# Altium schematic symbol library MF-FSMF050X-2.SchLib: 1 symbol
Pins are listed as number, name and electrical type; pins without a type are passive.

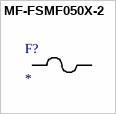
[diagram p0: symbol MF-FSMF050X-2]

## MF-FSMF050X-2
designator F?
No Description Available; Mfr_Name: Bourns Electronics
footprint FUSE_MF-FSMF050X_BRN
pins: 1, 2